# Altium schematic symbol library Crystals.SchLib: 12 symbols
Pins are listed as number, name and electrical type; pins without a type are passive.

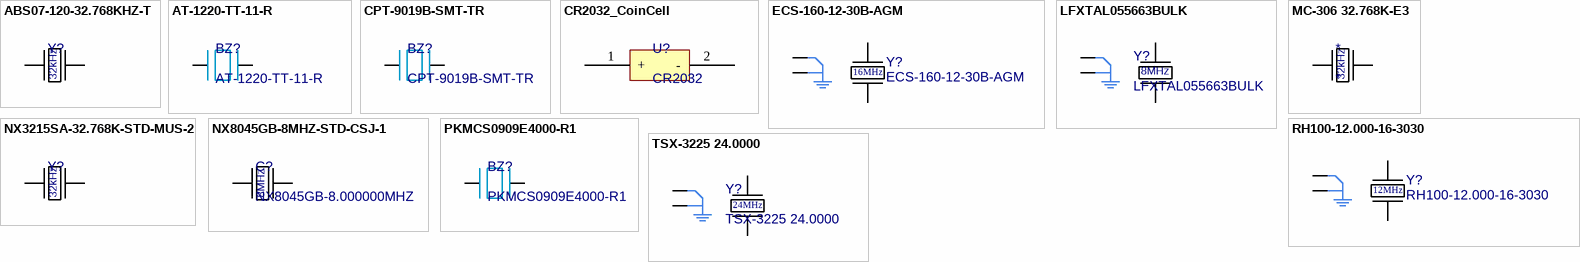
[diagram p0: symbols ABS07-120-32.768KHZ-T to TSX-3225 24.0000]

## ABS07-120-32.768KHZ-T
designator Y?  (value not drawn)
32.768KHz Crystal Oscillator; Supplier 1: Mouser; Supplier Part Number 1: 815-ABS0712032.768KT; Supplier 2: Digi-Key; Supplier Part Number 2: 535-11937-1-ND
footprint NX3215SA-32.768K-STD-MUS-2
pins: 1, 2
text: 32kHz

## AT-1220-TT-11-R
designator BZ?
2.048kHz buzzer; Supplier 1: Digi-Key; Supplier Part Number 1: 668-1465-ND
footprint AT-1220-TT-11-R (Buzzer)
pins: 1, 2

## CPT-9019B-SMT-TR
designator BZ?
PIEZO BUZZER TRANSDUCER; Supplier 1: Digi-Key; Supplier Part Number 1: 490-9647-1-ND
footprint CPT-9019B-SMT-TR
pins: 1, 2

## CR2032_CoinCell
designator U?, comment CR2032
CR2032 Battery holder; Supplier 1: Digi-Key; Supplier Part Number 1: BU2032SM-BT-GCT-ND
footprint CR2032_CoinCell
pins: 1 +, 2 -

## ECS-160-12-30B-AGM
designator Y?
16MHz Crystal 12pF 100 Ohms 4-SMD, No Lead; Supplier 1: Digi-Key; Supplier 2: Mouser; Supplier Part Number 1: XC2686CT-ND; Supplier Part Number 2: 520-160-12-30B-AGMT
footprint LFXTAL055663BULK
pins: 1, 2, 3, 4
text: 16MHz

## LFXTAL055663BULK
designator Y?
8MHz ±20ppm Crystal 18pF 150 Ohms 4-SMD, No Lead; Supplier 1: Digi-Key; Supplier 2: Mouser; Supplier Part Number 1: 1923-1256-ND; Supplier Part Number 2: 449-LFXTAL055663BULK
footprint LFXTAL055663BULK
pins: 1, 2, 3, 4
text: 8MHz

## MC-306 32.768K-E3
designator *
32.768KHz Crystal Oscillator
footprint MC-306 32.768K-E3
pins: 1, 4
text: 32kHz

## NX3215SA-32.768K-STD-MUS-2
designator Y?, comment NX3215SA  (value not drawn)
32.768KHz Crystal Oscillator; Supplier 1: Digi-Key; Supplier Part Number 1: 644-1159-1-ND; Supplier 2: Digi-Key; Supplier Part Number 2: 535-9542-1-ND
footprint NX3215SA-32.768K-STD-MUS-2
pins: 1, 2
text: 32kHz

## NX8045GB-8MHZ-STD-CSJ-1
designator C?, comment NX8045GB-8.000000MHZ
8MHz Crystal Oscillator; Supplier 1: Digi-Key; Supplier Part Number 1: 644-1018-1-ND; Supplier 2: Arrow
footprint NX8045GB-8MHZ-STD-CSJ-1
pins: 1, 2
text: 8MHz

## PKMCS0909E4000-R1
designator BZ?
Wideband Piezoelectric Buzzer, SMD; Supplier 1: Digi-Key; Supplier Part Number 1: 490-9647-1-ND
footprint PKMCS0909E4000-R1
pins: 1, 2

## RH100-12.000-16-3030
designator Y?
12MHz Crystal 16pF 100 Ohms 4-SMD, No Lead (3.2mm x 2.5mm); Supplier 1: Digi-Key; Supplier 2: Mouser; Supplier Part Number 1: XC2686CT-ND; Supplier Part Number 2: 520-160-12-30B-AGMT
footprint RH100-12.000-16-3030 (3.2mm x 2.5mm crystal)
pins: 1, 2, 3, 4
text: 12MHz

## TSX-3225 24.0000
designator Y?
24MHz ±10ppm Crystal 9pF 40 Ohms 4-SMD, No Lead; Supplier 1: Digi-Key; Supplier 2: Mouser; Supplier Part Number 2: 732-22524MF15X-AC6; Supplier Part Number 1: SER4180CT-ND
footprint TSX-3225
pins: 1, 2, 3, 4
text: 24MHz